# Altium schematic symbol library LM2574-5.0YN.SchLib: 1 symbol
Pins are listed as number, name and electrical type; pins without a type are passive.

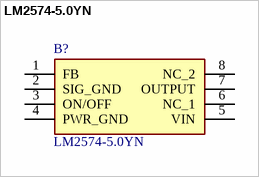
[diagram p0: symbol LM2574-5.0YN]

## LM2574-5.0YN
designator B?
Microchip LM2574-5.0YN, Step Down DC-DC Converter, 500mA, 8-Pin PDIP; Geometry.Height: 3.43mm; Mouser Part Number: 998-LM2574-5.0YN; Mouser Price/Stock: https://www.mouser.co.uk/ProductDetail/Microchip-Technology-Micrel/LM2574-50YN?qs=kh6iOki%2FeLG8tRVzGWSPaw%3D%3D; Manufacturer_Name: Microchip; Manufacturer_Part_Number: LM2574-5.0YN; Datasheet Link: https://ww1.microchip.com/downloads/en/DeviceDoc/lm2574.pdf
footprint DIP762W57P254L952H343Q8N
pins: 1 FB, 2 SIG_GND, 3 ON/OFF, 4 PWR_GND, 5 VIN, 6 NC_1, 7 OUTPUT, 8 NC_2